# Altium integrated library ExtraComp.IntLib: 2 symbols
Pins are listed as number, name and electrical type; pins without a type are passive.

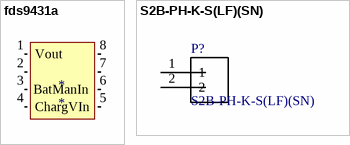
[diagram p0: symbols fds9431a to S2B-PH-K-S(LF)(SN)]

## fds9431a
designator *
footprint SOIC127P600X175-8N
pins: 1 Vout (out), 2 22, 3 23, 4 ChargVIn (in), 5 22, 6 BatManIn (in), 7 22, 8 22

## S2B-PH-K-S(LF)(SN)
designator P?
Header Side Entry 2way; MF: JST; SnapEDA_Link: https://www.snapeda.com/symbols-footprints/S2B-PH-K-S%20%28LF%29%28SN%29/JST/view-part/?ref=snap; Availability: Good; Package: None; Price: 0.12 USD; MP: S2B-PH-K-S (LF)(SN); Value: *
footprint JST_S2B-PH-K-S(LF)(SN)
pins: 1, 2